# Altium schematic symbol library 2019-08-29_03-26-37.SchLib: 2 symbols
Pins are listed as number, name and electrical type; pins without a type are passive.

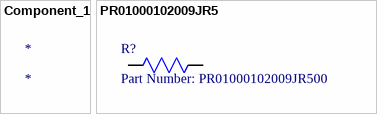
[diagram p0: symbols Component_1 to PR01000102009JR5]

## Component_1
designator *

## PR01000102009JR5
designator R?, comment Part Number: PR01000102009JR500
No Description Available; Vendor: Vishay; Built_By: EMA_UL_Team; Manufacturer_Part_Number: PR01000102009JR500; Copyright: Copyright (C) 2018 Accelerated Designs. All rights reserved; RefDes: RefDes; Type: DEV; Value: Value
footprint PR01
pins: 1, 2